# EAGLE library part SPANSION-S25FL256 (library Pygmy)
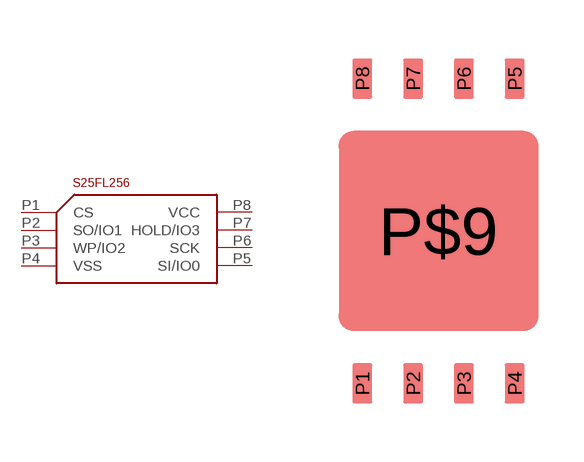
[diagram p66: symbol with the pads of SPANSION-WSON-8; footprint SPANSION-WSON-8]

Designator prefix -

## SPANSION-S25FL256  [SPANSION-WSON-8]
P1  CS
P2  SO/IO1
P3  WP/IO2
P4  VSS
P5  SI/IO0
P6  SCK
P7  HOLD/IO3
P8  VCC

## Footprint SPANSION-WSON-8 (pad centres in mm)
smd 0.5 x 1: P1 -1.905,-3.81; P2 -0.635,-3.81; P3 0.635,-3.81; P4 1.905,-3.81; P5 1.905,3.81; P6 0.635,3.81; P7 -0.635,3.81; P8 -1.905,3.81
smd 5 x 5: P$9 0,0